# EAGLE library part CON_01X07 (library PP_Connectors)
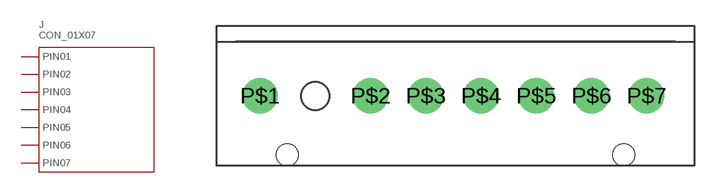
[diagram p23: symbol with the pads of 26-64-4080(KEYPIN2); footprint 26-64-4080(KEYPIN2)]

Designator prefix J

## CON_01X07_26-64-4080(KEYPIN2) (POPULATE: 1)  [26-64-4080(KEYPIN2)]
P$1  1
P$2  2
P$3  3
P$4  4
P$5  5
P$6  6
P$7  7

## Footprint 26-64-4080(KEYPIN2) (pad centres in mm)
drill 1.7: P$1 -13.86,0; P$2 -5.94,0; P$3 -1.98,0; P$4 1.98,0; P$5 5.94,0; P$6 9.9,0; P$7 13.86,0
hole 1.6 at -11.915,-4.24
hole 1.6 at 12.215,-4.24